# Altium schematic symbol library screw terminal.SchLib: 1 symbol
Pins are listed as number, name and electrical type; pins without a type are passive.

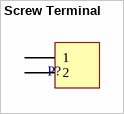
[diagram p0: symbol Screw Terminal]

## Screw Terminal
designator P?  (value not drawn)
Manufacturer Part No.: 1935161; Digi-Key Part No.: 277-1667-ND
footprint Screw Terminal (Phoenix Screw Terminal)
pins: 1, 2